# Altium footprint library 1.PcbLib: 4 footprints
Each footprint in its own frame and in the unit in brackets; x right, y up, seen from the top. Pads: shape width x height; smd on the part's side, far side on the other; paste and mask are expansions set on the pad; w line width, h text height; cw(c..) or ccw(c..) is an arc to the next point about the centre after c.
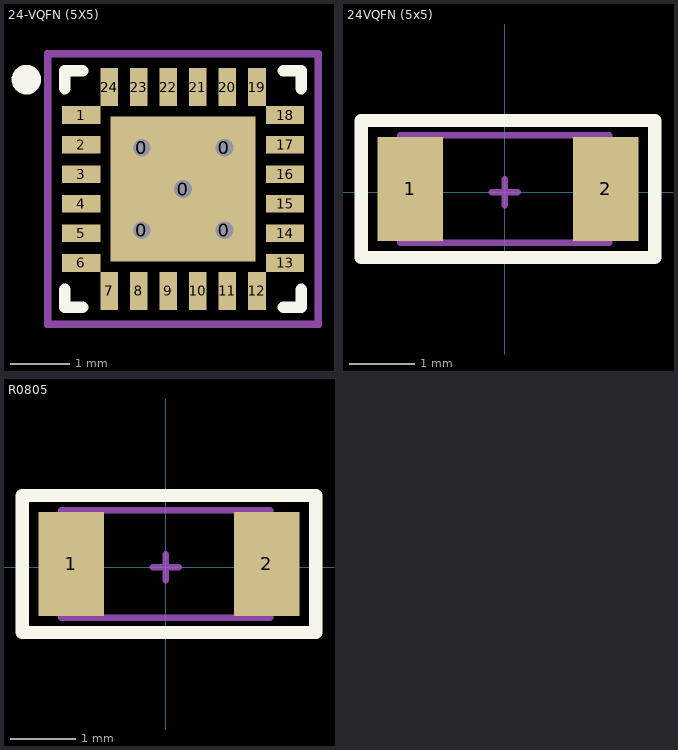
[diagram p0: the footprints below, top view; thin cyan lines are the x and y axes]

## 24-VQFN (5X5) [mm]
pads (30):
  round 0.7 hole 0.3: 0(11.3,9.3) 0(11.3,10.7) 0(12,10) 0(12.7,9.3) 0(12.7,10.7)
  rect 0.65x0.3 smd: 1(10.275,11.25) 2(10.275,10.75) 3(10.275,10.25) 4(10.275,9.75) 5(10.275,9.25) 6(10.275,8.75) 13(13.725,8.75) 14(13.725,9.25) 15(13.725,9.75) 16(13.725,10.25) 17(13.725,10.75) 18(13.725,11.25)
  rect 0.3x0.65 smd: 7(10.75,8.275) 8(11.25,8.275) 9(11.75,8.275) 10(12.25,8.275) 11(12.75,8.275) 12(13.25,8.275) 19(13.25,11.725) 20(12.75,11.725) 21(12.25,11.725) 22(11.75,11.725) 23(11.25,11.725) 24(10.75,11.725)
  rect 2.45x2.45 smd: ""(12,10)
Top Overlay:
  circle w0.25: c9.35,11.85 r0.125
  lines w0.2: 10,8.3 10,8 10.3,8 ; 10,11.7 10,12 10.3,12 ; 13.7,8 14,8 14,8.3 ; 13.7,12 14,12 14,11.7
Top Assy:
  lines w0.1: 9.7,7.7 14.3,7.7 14.3,12.3 9.7,12.3 9.7,7.7
Mechanical 13:
  lines w0.1: 11.5,10 12.5,10 ; 9.725,7.725 9.725,12.275 14.275,12.275 14.275,7.725 9.725,7.725
3D body "PQFN50P400X400X90_HS-25N.step": height 0.9, standoff 0, extent 10,8 14,12

## 24VQFN (5x5) [mm]
pads (2):
  rect 1x1.6 smd: 1(-1.45,0.05) 2(1.55,0.05)
Top Overlay:
  lines w0.2: -2.2,-1 2.3,-1 2.3,1.1 -2.2,1.1 -2.2,-1
Top Assy:
  lines w0.1: -1.6,-0.775 1.6,-0.775 1.6,0.875 -1.6,0.875 -1.6,-0.775
Border:
  lines w0.1: 0.2,0 -0.2,0 0,0 ; 0,0 0,-0.2 0,0.2 0,0 ; -2.2,-1 2.3,-1 2.3,1.1 -2.2,1.1 -2.2,-1
3D body "CircuitWorks-RESISTOR 1206.STEP": height 0.03, standoff -0.53, extent -1.6,-0.78 1.6,0.88

## R0805 [mm]
pads (2):
  rect 1x1.6 smd: 1(-1.45,0.05) 2(1.55,0.05)
Top Overlay:
  lines w0.2: -2.2,-1 -2.2,1.1 2.3,1.1 2.3,-1 -2.2,-1
Top Assy:
  lines w0.1: -1.6,-0.775 -1.6,0.875 1.6,0.875 1.6,-0.775 -1.6,-0.775
Border:
  lines w0.1: 0.2,0 -0.2,0 0,0 ; 0,0 0,0.2 0,-0.2 0,0 ; -2.2,-1 -2.2,1.1 2.3,1.1 2.3,-1 -2.2,-1
3D body "CircuitWorks-RESISTOR 1206.STEP": height 0.03, standoff -0.53, extent -1.6,-0.78 1.6,0.88

## R1206 [mm] "1206"